# EAGLE library part MPU-6050 (library 00_custom)
Gyro / Accelerometer Module GY-521
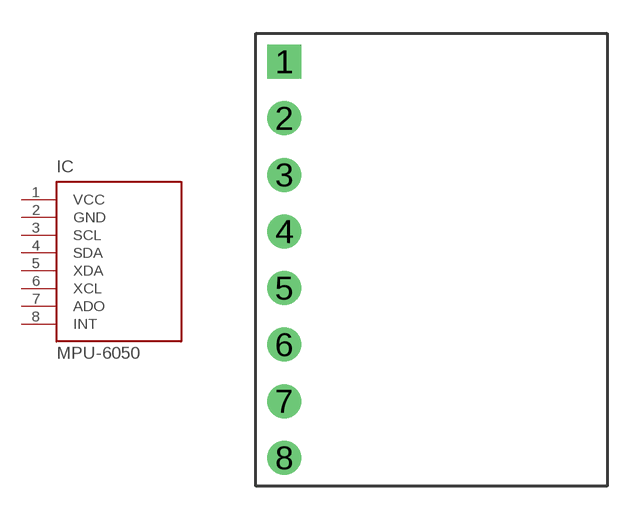
[diagram p11: symbol with the pads of MPU-6050_GY521; footprint MPU-6050_GY521]

Designator prefix IC

## MPU-6050  [MPU-6050_GY521]
1  VCC
2  GND
3  SCL
4  SDA
5  XDA
6  XCL
7  ADO
8  INT

## Footprint MPU-6050_GY521 (pad centres in mm)
drill 1.016 pad 1.524 square: 1 1.27,19.05
drill 1.016 pad 1.524: 2 1.27,16.51; 3 1.27,13.97; 4 1.27,11.43; 5 1.27,8.89; 6 1.27,6.35; 7 1.27,3.81; 8 1.27,1.27